# Altium footprint library LED5.PcbLib: 5 footprints
Each footprint in its own frame and in the unit in brackets; x right, y up, seen from the top. Pads: shape width x height; smd on the part's side, far side on the other; paste and mask are expansions set on the pad; w line width, h text height; cw(c..) or ccw(c..) is an arc to the next point about the centre after c.
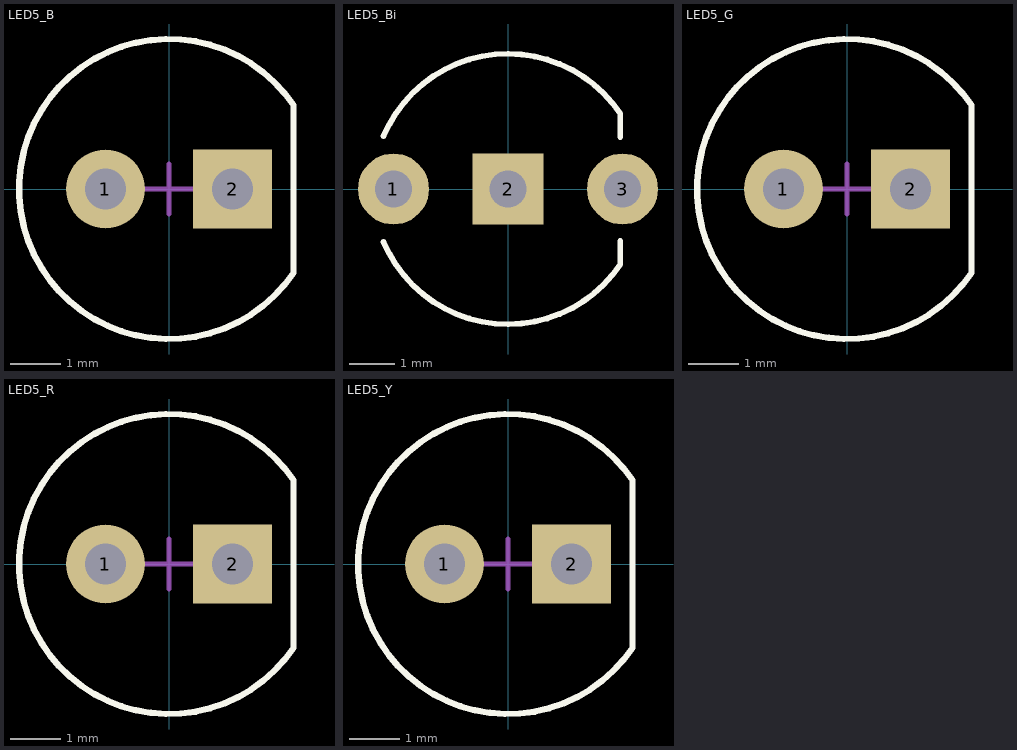
[diagram p0: the footprints below, top view; thin cyan lines are the x and y axes]

## LED5_B [mil]
pads (2):
  round 62 hole 32: 1(-50,0)
  rect 62x62 hole 32: 2(50,0)
Top Overlay:
  lines w5: 97.97,-65.96 cw(c0,0) 97.97,65.96 ; 98.03,-65.96 98.03,65.96
Mechanical 15:
  lines w3.94: -19.69,0 19.68,0 ; 0,-19.68 0,19.69
3D body "User Library-LEDd5B.STEP": height 484.75, standoff -97.93, extent -117.69,-118.49 95.69,118.5

## LED5_Bi [mil]
pads (3):
  round 62 hole 32: 1(-100,0) 3(100,0)
  rect 62x62 hole 32: 2(0,0)
Top Overlay:
  lines w5: -108.68,-46.24 ccw(c0,0) 97.97,-65.96 ; -108.68,46.24 cw(c0,0) 97.97,65.96 ; 98.03,-65.96 98.03,-45.5 ; 98.03,45.5 98.03,65.96
Mechanical 15:
  lines w3.94: -19.69,0 19.68,0 ; 0,-19.68 0,19.69
3D body "User Library-5BC-3-CA-F.STEP": height 464.57, standoff -110.65, extent -114.17,-114.18 109.69,114.17

## LED5_G [mil]
pads (2):
  round 62 hole 32: 1(-50,0)
  rect 62x62 hole 32: 2(50,0)
Top Overlay:
  lines w5: 97.97,-65.96 cw(c0,0) 97.97,65.96 ; 98.03,-65.96 98.03,65.96
Mechanical 15:
  lines w3.94: -19.69,0 19.68,0 ; 0,-19.68 0,19.69
3D body "SW3dPS-LEDd5G.STEP": height 484.75, standoff -97.93, extent -117.69,-118.49 95.69,118.5

## LED5_R [mil]
pads (2):
  round 62 hole 32: 1(-50,0)
  rect 62x62 hole 32: 2(50,0)
Top Overlay:
  lines w5: 97.97,-65.96 cw(c0,0) 97.97,65.96 ; 98.03,-65.96 98.03,65.96
Mechanical 15:
  lines w3.94: -19.69,0 19.68,0 ; 0,-19.68 0,19.69
3D body "SW3dPS-LEDd5R.STEP": height 484.75, standoff -97.93, extent -117.69,-118.49 95.69,118.5

## LED5_Y [mil]
pads (2):
  round 62 hole 32: 1(-50,0)
  rect 62x62 hole 32: 2(50,0)
Top Overlay:
  lines w5: 97.97,-65.96 cw(c0,0) 97.97,65.96 ; 98.03,-65.96 98.03,65.96
Mechanical 15:
  lines w3.94: -19.69,0 19.68,0 ; 0,-19.68 0,19.69
3D body "SW3dPS-LEDd5Y.STEP": height 484.75, standoff -97.93, extent -117.69,-118.49 95.69,118.5